# EAGLE library part LMP7712MM (library libSheldonDrone)
CMOS Input Amplifiers
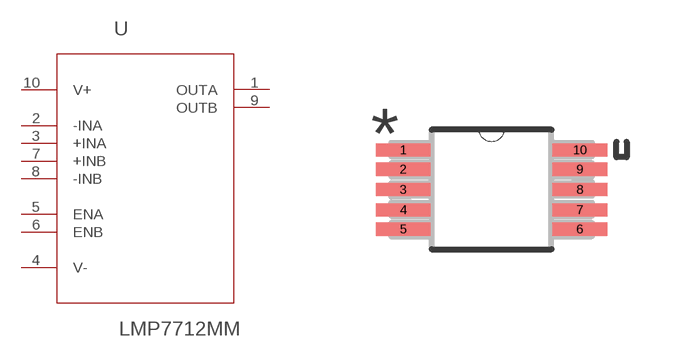
[diagram p1: symbol with the pads of SOP50P490X110-10N; footprint SOP50P490X110-10N]

Designator prefix U

## LMP7712MM (MPN: LMP7712MM; OC_FARNELL: 1312609; OC_NEWARK: 31M5302; PACKAGE: MSOP-10; SUPPLIER: National Semiconductors)  [SOP50P490X110-10N]
1  OUTA  out
2  -INA  in
3  +INA  in
4  V-  pwr
5  ENA  in
6  ENB  in
7  +INB  in
8  -INB  in
9  OUTB  out
10  V+  pwr

## Footprint SOP50P490X110-10N (pad centres in mm)
smd 1.372 x 0.33: 1 -2.21,0.991; 2 -2.21,0.508; 3 -2.21,0; 4 -2.21,-0.508; 5 -2.21,-0.991; 6 2.21,-0.991; 7 2.21,-0.508; 8 2.21,0; 9 2.21,0.508; 10 2.21,0.991